# Altium footprint library 封装库.PCBLIB: 282 footprints (part 10 of 18)
Each footprint in its own frame and in the unit in brackets; x right, y up, seen from the top. Pads: shape width x height; smd on the part's side, far side on the other; paste and mask are expansions set on the pad; w line width, h text height; cw(c..) or ccw(c..) is an arc to the next point about the centre after c.
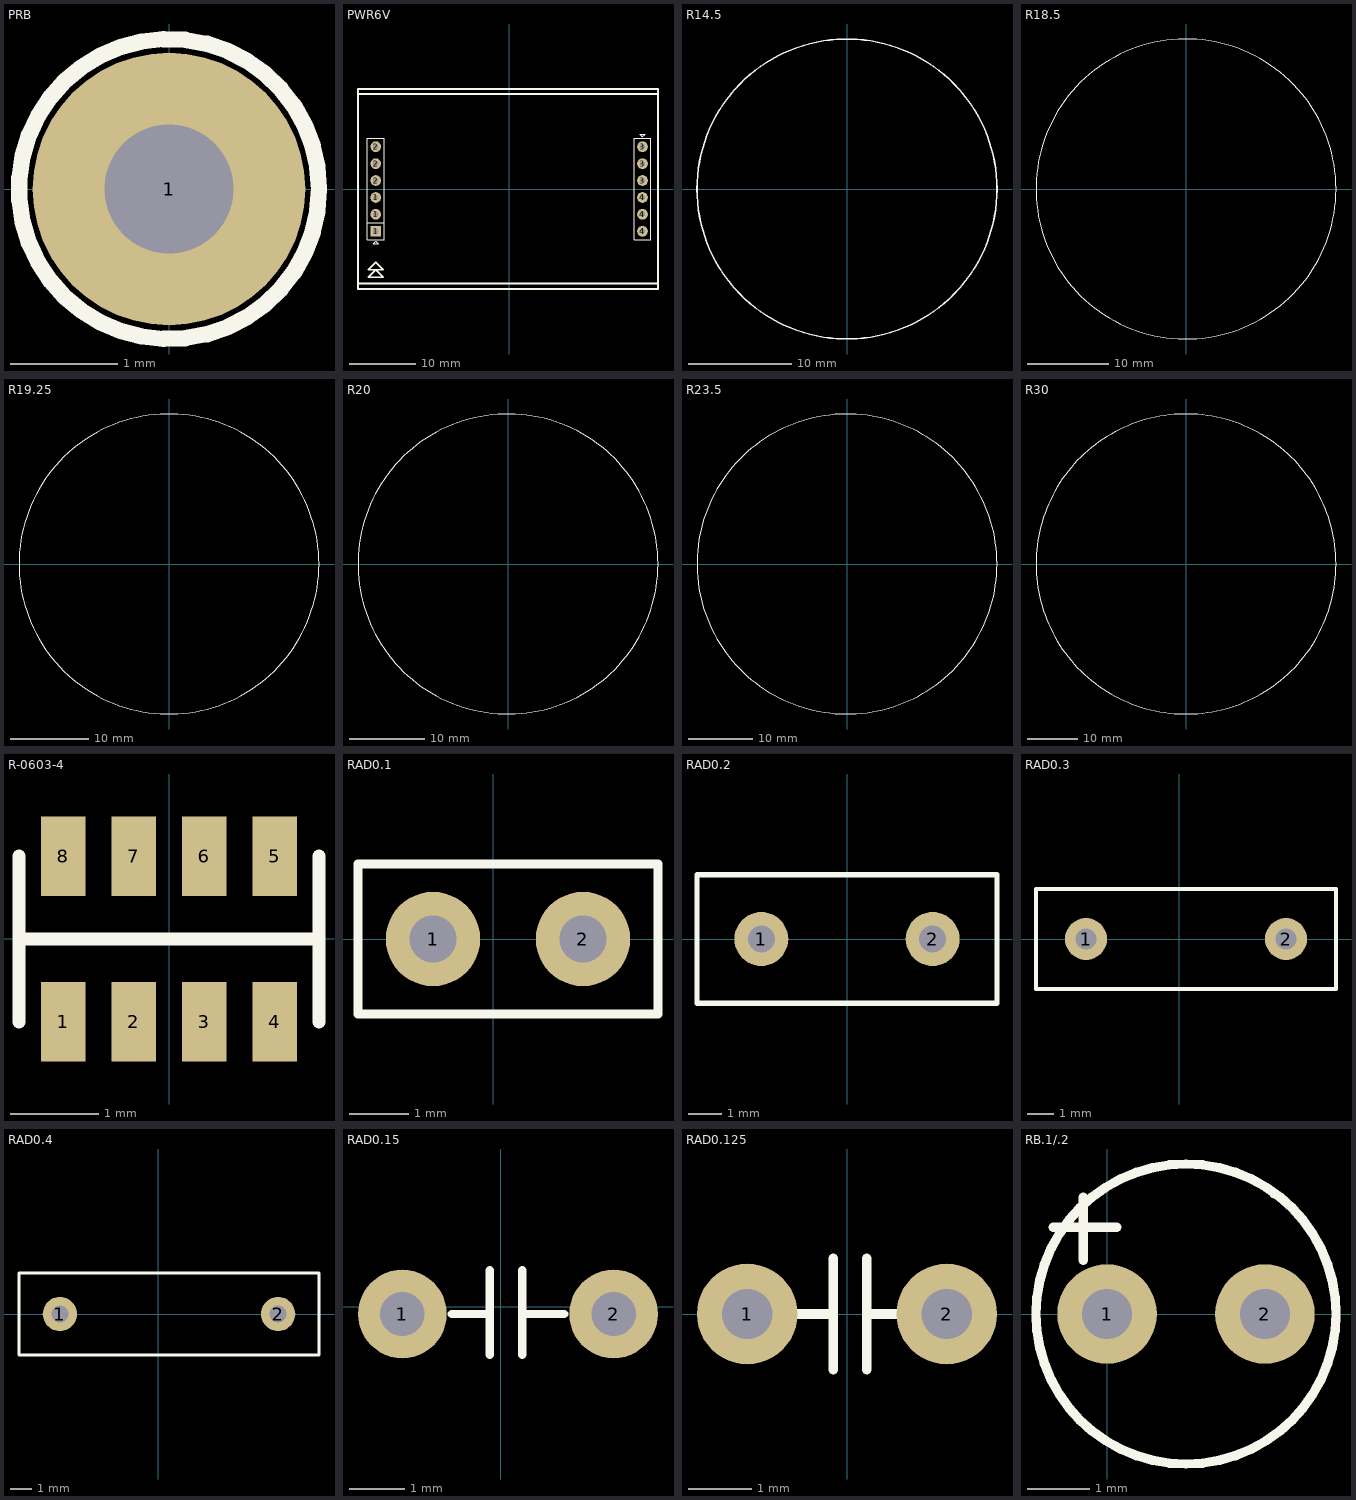
[diagram p9: the footprints below, top view; thin cyan lines are the x and y axes]

## PRB [mm] "Large"
pads (1):
  round 2.54 hole 1.2: 1(0,0)
TopOverlay:
  circle w0.152: c0,0 r1.397

## PWR6V [mm]
pads (12):
  rect 1.6x1.6 hole 0.8: 1(-20.002,-6.35)
  round 1.6 hole 0.8: 1(-20.002,-3.81) 1(-20.002,-1.27) 2(-20.002,1.27) 2(-20.002,3.81) 2(-20.002,6.35) 3(20.002,1.27) 3(20.002,3.81) 3(20.002,6.35) 4(20.002,-6.35) 4(20.002,-3.81) 4(20.002,-1.27)
TopOverlay:
  lines w0.152: -21.273,-5.08 -18.732,-5.08 ; -21.273,-7.62 -18.732,-7.62 -18.732,7.62 -21.273,7.62 -21.273,-7.62 ; -20.383,-8.23 -20.002,-7.849 -19.621,-8.23 -20.383,-8.23 ; 18.732,-7.62 21.273,-7.62 21.273,7.62 18.732,7.62 18.732,-7.62 ; 19.621,8.23 20.383,8.23 20.002,7.849 19.621,8.23
  lines w0.254: -22.669,-14.187 22.33,-14.187 ; -22.669,14.261 22.33,14.261 ; -22.669,-15 22.33,-15 22.33,15 -22.669,15 -22.669,-15 ; -21.12,-13.247 -18.885,-13.247 -20.002,-12.13 -21.12,-13.247 ; -21.12,-12.13 -18.885,-12.13 -20.002,-11.012 -21.12,-12.13

## R14.5 [mm]
TopOverlay:
  circle w0.152: c0,0 r14.5

## R18.5 [mm]
TopOverlay:
  circle w0.152: c0,0 r18.5

## R19.25 [mm]
TopOverlay:
  circle w0.152: c0,0 r19.25

## R20 [mm]
TopOverlay:
  circle w0.152: c0,0 r20

## R23.5 [mm]
TopOverlay:
  circle w0.152: c0,0 r23.5

## R30 [mm]
TopOverlay:
  circle w0.152: c0,0 r30

## R-0603-4 [mm]
pads (8):
  rect 0.5x0.9 smd: 1(-1.2,-0.94) 2(-0.4,-0.94) 3(0.4,-0.94) 4(1.2,-0.94) 5(1.2,0.94) 6(0.4,0.94) 7(-0.4,0.94) 8(-1.2,0.94)
TopOverlay:
  lines w0.152: -1.702,-0.94 -1.702,0.229 ; -1.702,0.94 -1.702,0 1.702,0 1.702,0.94 1.702,-0.94

## RAD0.1 [mm]
pads (2):
  round 1.6 hole 0.8: 1(-1.016,0) 2(1.524,0)
TopOverlay:
  lines w0.152: -2.286,-1.27 -2.286,1.27 2.794,1.27 2.794,-1.27 -2.286,-1.27

## RAD0.2 [mm]
pads (2):
  round 1.6 hole 0.8: 1(-2.54,0) 2(2.54,0)
TopOverlay:
  lines w0.152: -4.445,-1.905 -4.445,1.905 4.445,1.905 4.445,-1.905 -4.445,-1.905

## RAD0.3 [mm]
pads (2):
  round 1.6 hole 0.8: 1(-3.556,0) 2(4.064,0)
TopOverlay:
  lines w0.152: -5.461,-1.905 -5.461,1.905 5.969,1.905 5.969,-1.905 -5.461,-1.905

## RAD0.4 [mm]
pads (2):
  round 1.6 hole 0.8: 1(-4.572,0) 2(5.588,0)
TopOverlay:
  lines w0.152: -6.477,-1.905 7.493,-1.905 7.493,1.905 -6.477,1.905 -6.477,-1.905

## RAD0.15 [mm]
pads (2):
  round 1.6 hole 0.8: 1(-1.778,-0.127) 2(2.032,-0.127)
TopOverlay:
  lines w0.152: -0.889,-0.127 -0.254,-0.127 ; -0.203,-0.864 -0.203,-0.102 -0.203,0.66 ; 0.381,-0.864 0.381,-0.102 0.381,0.66 ; 0.381,-0.127 1.143,-0.127

## RAD0.125 [mm]
pads (2):
  round 1.6 hole 0.8: 1(-1.587,0) 2(1.587,0)
TopOverlay:
  lines w0.152: -0.826,0 -0.318,0 ; -0.216,-0.889 -0.216,0.889 ; 0.318,-0.889 0.318,0.889 ; 0.318,0 0.826,0

## RB.1/.2 [mm] "AL"
pads (2):
  round 1.6 hole 0.8: 1(0,0) 2(2.54,0)
TopOverlay:
  circle w0.152: c1.27,0 r2.413
  lines w0.152: -0.864,1.397 0.152,1.397 ; -0.381,0.864 -0.381,1.88 ; 2.692,1.93 2.718,1.93